# EAGLE library part LT8630 (library AR_IC)
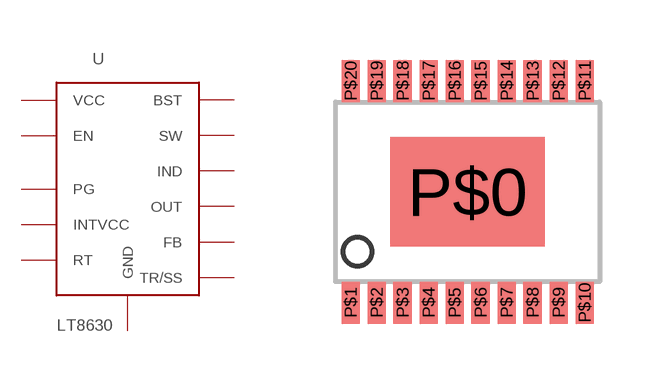
[diagram p4: symbol with the pads of 20-TSSOP; footprint 20-TSSOP]

Designator prefix -

## LT8630  [20-TSSOP]
P$0  GND
P$1  VCC
P$3  EN
P$5  PG
P$8  RT
P$10  TR/SS
P$11  FB
P$12  OUT
P$14  IND
P$16  INTVCC
P$18  BST
P$20  SW

## Footprint 20-TSSOP (pad centres in mm)
smd 3.86 x 2.74: P$0 0,0
smd 0.45 x 1.05: P$1 -2.925,-2.775; P$2 -2.275,-2.775; P$3 -1.625,-2.775; P$4 -0.975,-2.775; P$5 -0.325,-2.775; P$6 0.325,-2.775; P$7 0.975,-2.775; P$8 1.625,-2.775; P$9 2.275,-2.775; P$10 2.925,-2.775; P$11 2.925,2.775; P$12 2.275,2.775; P$13 1.625,2.775; P$14 0.975,2.775; P$15 0.325,2.775; P$16 -0.325,2.775; P$17 -0.975,2.775; P$18 -1.625,2.775; P$19 -2.275,2.775; P$20 -2.925,2.775